# Altium schematic symbol library Schottky.SchLib: 5 symbols
Pins are listed as number, name and electrical type; pins without a type are passive.

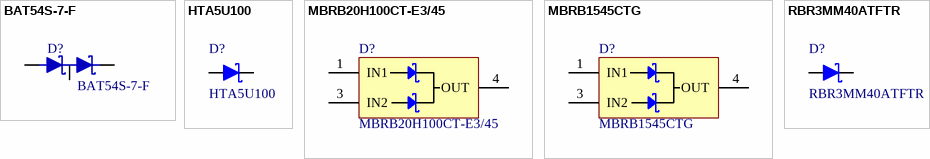
[diagram p0: symbols BAT54S-7-F to RBR3MM40ATFTR]

## BAT54S-7-F
designator D?
DIODE ARRAY SCHOTTKY 30V 220mA SOT23-3; Manufacturer: Diodes Incorporated; ContinuousForwardCurrent: 200mA; Supplier 1: Farnell; Supplier Part Number 1: 9526510; Manufacturer Part Number: BAT54S-7-F; ComponentLink1URL: https://www.diodes.com/assets/Datasheets/ds11005.pdf; ComponentLink1Description: Datasheet; Type: Schottky; Value: 30V
footprint SOT-23
pins: 1 "A", 2 "K", 3

## HTA5U100
designator D?
DIODE SCHOTTKY 100V 5A SMA (DO-214AC); Manufacturer: MULTICOMP; ContinuousForwardCurrent: 5A (Pk 50A); Supplier 1: Farnell; Manufacturer Part Number: HTA5U100; ComponentLink1URL: http://www.farnell.com/datasheets/2282884.pdf; ComponentLink1Description: Datasheet; Supplier Part Number 1: 2750942; Type: Schottky; Value: 100V
footprint SMA, DO-214AC (Case 403D-02)
pins: 1 "A", 2 "K"

## MBRB20H100CT-E3/45
designator D?
DIODE ARRAY SCHOTTKY 100V 20A D2PAK; Manufacturer: VISHAY; Supplier 1: Farnell; Supplier Part Number 1: 1859694; ComponentLink1Description: Datasheet; ComponentLink1URL: http://www.vishay.com/docs/88673/mbr20ct.pdf; Manufacturer Part Number: MBRB20H100CT-E3/45; ContinuousForwardCurrent: 20A; Type: Schottky; Value: 100V
footprint TO263AB, D2PAK
pins: 1 IN1 (power), 3 IN2 (power), 4 OUT (power)

## MBRB1545CTG
designator D?
DIODE ARRAY SCHOTTKY 45V 15A D2PAK; Manufacturer: ON Semiconductor; Supplier 1: Farnell; Manufacturer Part Number: MBRB1545CTG; ComponentLink1URL: http://www.onsemi.com/pub_link/Collateral/MBRB1545CT-D.PDF; ComponentLink1Description: Datasheet; Supplier Part Number 1: 1431082; ContinuousForwardCurrent: 15A; Type: Schottky; Value: 45V
footprint TO263AB, D2PAK
pins: 1 IN1 (power), 3 IN2 (power), 4 OUT (power)

## RBR3MM40ATFTR
designator D?
DIODE SCHOTTKY 40V 3A SOD123-FL; Manufacturer: ROHM; Supplier 1: Farnell; Manufacturer Part Number: RBR3MM40ATFTR; ComponentLink1URL: http://www.farnell.com/datasheets/2067190.pdf; ComponentLink1Description: Datasheet; Supplier Part Number 1: 2581593; ComponentLink2Description: Manufacturer; ComponentLink2URL: http://www.rohm.com/web/global/products/-/product/RBR3MM40ATF; ContinuousForwardCurrent: 3A; Type: Schottky; Supplier 2: JLCPCB; Supplier Part Number 2: C8598; Value: 40V; Supplier Footprint 2: SOD-123
footprint SOD-123FL
pins: 1 "A", 2 "K"